# EAGLE library part ARDUINO_MICRO (library Boards)
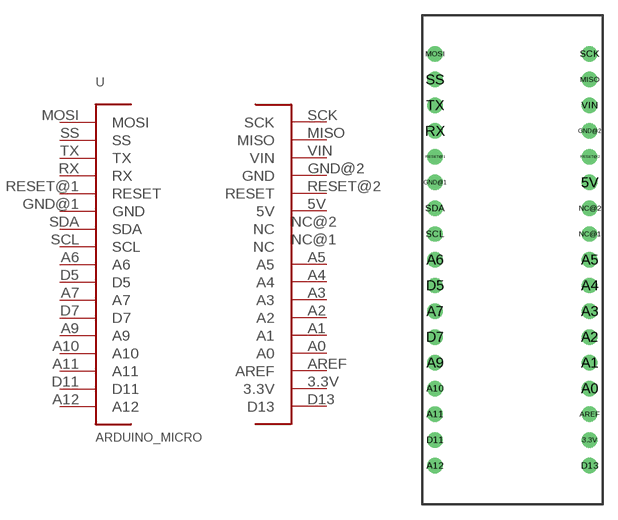
[diagram p8: symbol with the pads of ARDUINO_MICRO; footprint ARDUINO_MICRO]

Designator prefix -

## ARDUINO_MICRO  [ARDUINO_MICRO]
3.3V  3.3V  pwr
5V  5V  pwr
A0  A0
A1  A1
A2  A2
A3  A3
A4  A4
A5  A5
A6  A6
A7  A7
A9  A9
A10  A10
A11  A11
A12  A12
AREF  AREF  pwr
D5  D5
D7  D7
D11  D11
D13  D13
GND@1  GND  pwr
GND@2  GND  pwr
MISO  MISO
MOSI  MOSI
NC@1  NC
NC@2  NC
RESET@1  RESET
RESET@2  RESET
RX  RX
SCK  SCK
SCL  SCL
SDA  SDA
SS  SS
TX  TX
VIN  VIN  pwr

## Footprint ARDUINO_MICRO (pad centres in mm)
drill 1.016: 3.3V 7.62,-19.05; 5V 7.62,6.35; A0 7.62,-13.97; A1 7.62,-11.43; A2 7.62,-8.89; A3 7.62,-6.35; A4 7.62,-3.81; A5 7.62,-1.27; A6 -7.62,-1.27; A7 -7.62,-6.35; A9 -7.62,-11.43; A10 -7.62,-13.97; A11 -7.62,-16.51; A12 -7.62,-21.59; AREF 7.62,-16.51; D5 -7.62,-3.81; D7 -7.62,-8.89; D11 -7.62,-19.05; D13 7.62,-21.59; GND@1 -7.62,6.35; GND@2 7.62,11.43; MISO 7.62,16.51; MOSI -7.62,19.05; NC@1 7.62,1.27; NC@2 7.62,3.81; RESET@1 -7.62,8.89; RESET@2 7.62,8.89; RX -7.62,11.43; SCK 7.62,19.05; SCL -7.62,1.27; SDA -7.62,3.81; SS -7.62,16.51; TX -7.62,13.97; VIN 7.62,13.97